# EAGLE library part MAX30100 (library max30100)
Ciruito integrado MAX30100.
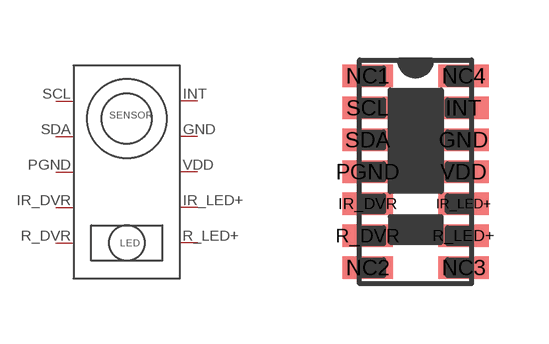
[diagram p0: symbol with the pads of SOIC14; footprint SOIC14]

Designator prefix -

## MAX30100  [SOIC14]
GND  GND  pwr
INT  INT
IR_DVR  IR_DVR
IR_LED+  IR_LED+
PGND  PGND  pwr
R_DVR  R_DVR
R_LED+  R_LED+
SCL  SCL
SDA  SDA
VDD  VDD  pwr

## Footprint SOIC14 (pad centres in mm)
smd 1.27 x 0.559: GND -0.71,-1.88; INT -0.71,-1.08; IR_DVR -3.11,-3.48; IR_LED+ -0.71,-3.48; NC1 -3.11,-0.28; NC2 -3.11,-5.08; NC3 -0.71,-5.08; NC4 -0.71,-0.28; PGND -3.11,-2.68; R_DVR -3.11,-4.28; R_LED+ -0.71,-4.28; SCL -3.11,-1.08; SDA -3.11,-1.88; VDD -0.71,-2.68